# Altium footprint library smd_cap.PcbLib: 3 footprints
Each footprint in its own frame and in the unit in brackets; x right, y up, seen from the top. Pads: shape width x height; smd on the part's side, far side on the other; paste and mask are expansions set on the pad; w line width, h text height; cw(c..) or ccw(c..) is an arc to the next point about the centre after c.
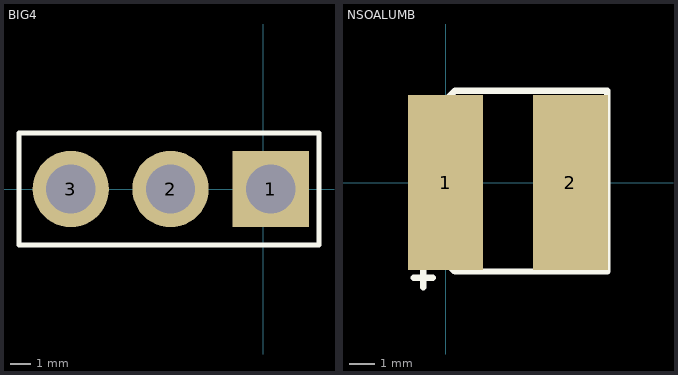
[diagram p0: the footprints below, top view; thin cyan lines are the x and y axes]

## BIG4 [mil]
pads (3):
  rect 150x150 hole 97: 1(15,0)
  round 150 hole 97: 2(-182,0) 3(-378,0)
Top Overlay:
  lines w10: -480,-110 110,-110 110,110 -480,110 -480,-110

## NSOALUMB [mm]
pads (2):
  rect 3x7 smd: 1(0,0) 2(5,0)
Top Overlay:
  lines w0.254: -1.27,-3.81 -0.508,-3.81 ; -0.889,-4.191 -0.889,-3.429 ; -0.889,2.413 0.381,3.683 2.159,3.683 3.937,3.683 6.477,3.683 6.477,-3.556 0.381,-3.556 -0.762,-2.413

## PCBComponent_1 [mil]